# Altium schematic symbol library ADUM210N1BRIZ.SchLib: 1 symbol
Pins are listed as number, name and electrical type; pins without a type are passive.

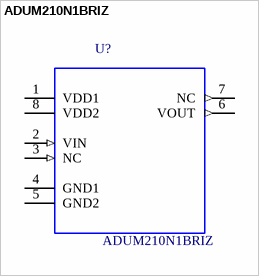
[diagram p0: symbol ADUM210N1BRIZ]

## ADUM210N1BRIZ
designator U?
Digital isolator 1-CH 8-Pin SOIC T/R; MF: Analog Devices; Digi-Key_Purchase_URL: https://www.digikey.ca/product-detail/en/analog-devices-inc/ADUM210N1BRIZ/ADUM210N1BRIZ-ND/6072296; Manufacturer Part Number: ADUM210N1BRIZ; Package: SOIC8; Digi-Key_Part_Number: ADUM210N1BRIZ-ND; SnapEDA_Link: https://www.snapeda.com/parts/ACPL-072L-500E/Broadcom/view-part/?ref=snap; Value: *
footprint SOIC127P1150X330-8N
pins: 1 VDD1 (power), 2 VIN (in), 3 NC (in), 4 GND1, 5 GND2, 6 VOUT (out), 7 NC (out), 8 VDD2 (power)